# Altium schematic symbol library PartsDatabaseV16.1.SchLib: 101 symbols (part 2 of 2)
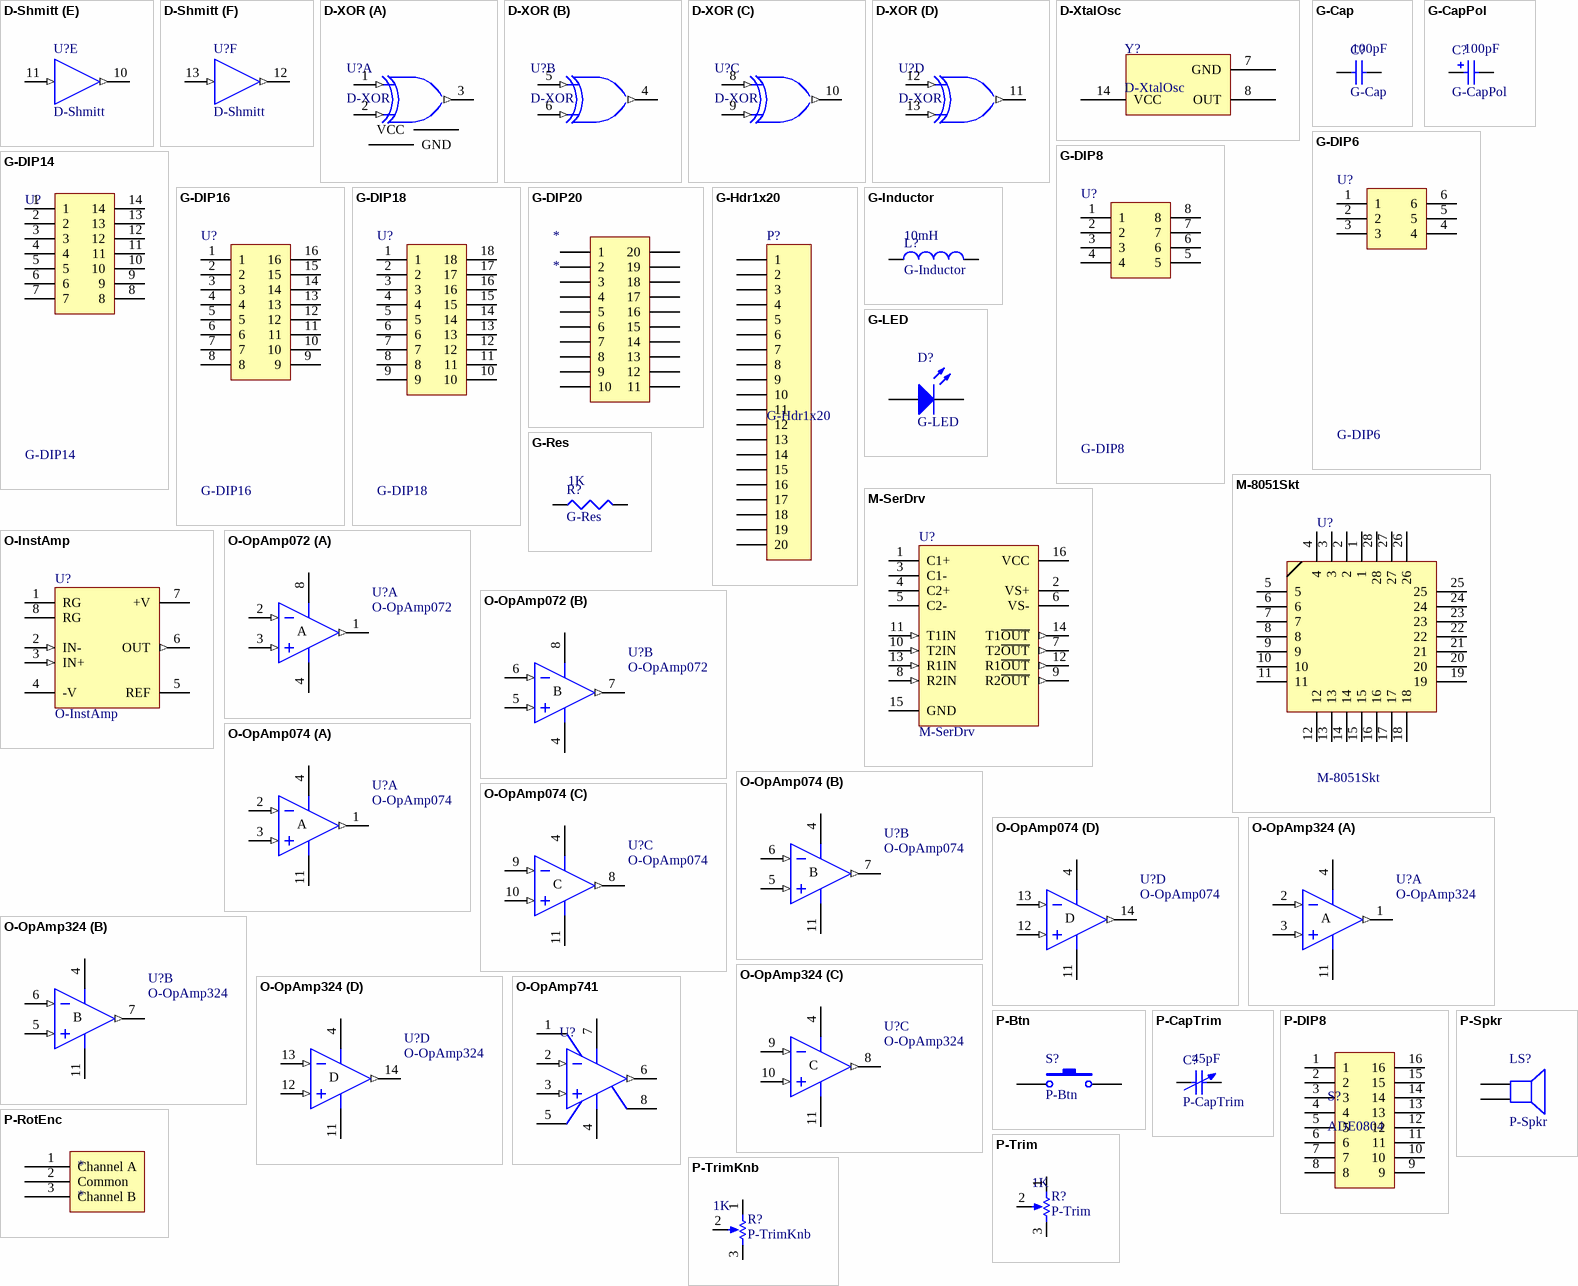
[diagram p4: symbols D-Shmitt to P-TrimKnb]

## O-OpAmp324
designator U?
Quad Op-Amp; Published: 24-Aug-2001; LatestRevisionDate: 06-Jun-2005; LatestRevisionNote: Stylized 3D Model Added.; DatasheetVersion: Jun-1999; PackageVersion: Jan-1997; PackageReference: DIP14; Publisher: Altium Limited; PackageDescription: DIP; 14 Leads; Row Spacing 7.62 mm; Pitch 2.54 mm; ComponentLink1Description: Manufacturer Link; ComponentLink1URL: http://www.st.com/; ComponentLink2Description: Datasheet; ComponentLink2URL: http://www.st.com/stonline/products/literature/ds/2156/lm324.pdf; ComponentLink3URL: https://www.fairchildsemi.com/datasheets/LM/LM2902.pdf; ComponentLink3Description: Datasheet (ELEC391)
footprint DIP14_LGE1.0 (DIP; 14 Leads; Row Spacing 7.62 mm; Pitch 2.54 mm)
footprint DIP14_SML0.8 (DIP; 14 Leads; Row Spacing 7.62 mm; Pitch 2.54 mm)
simulation model LM324
pins on every part: 4 V+ (power), 11 V- (power)
part A pins: 1 OUT (out), 2 IN- (in), 3 IN+ (in)
part B pins: 5 IN+ (in), 6 IN- (in), 7 OUT (out)
part C pins: 8 OUT (out), 9 IN- (in), 10 IN+ (in)
part D pins: 12 IN+ (in), 13 IN- (in), 14 OUT (out)
part A text: A
part B text: B
part C text: C
part D text: D

## O-OpAmp741
designator U?
741 Op-Amp; PartNumber: LM741CN; Manufacturer: National Semiconductor; CompType: Amplifiers; PackageTopMarking: NSUZXYTT*LM*741CN; PowerWise: N; Published: 4-Dec-2008; LatestRevisionDate: 13-Jan-2009; LatestRevisionNote: Sim Model Added.; DatasheetVersion: Aug-2000; PackageVersion: revG, May-2006; PackageReference: N08E; Publisher: Altium Limited; PackageDescription: MDIP, .365 x .250 x .130in, 8 Lead, .100in Pitch; RoHS: O; PinCount: 8; DigiKeyPartNumber: LM741CNNS-ND; Code_JEDEC: MS-001-BA; ComponentLink1Description: LM741 Datasheet; ComponentLink1URL: http://www.national.com/ds/LM/LM741.pdf; ComponentLink2Description: LM741 Web Page; ComponentLink2URL: http://www.national.com/pf/LM/LM741.html; ComponentLink3Description: N08E Package Page; ComponentLink3URL: http://www.national.com/packaging/folders/n08e.html; ComponentLink4URL: http://www.ti.com/lit/ds/symlink/lm741.pdf; ComponentLink4Description: Datasheet (ELEC391)
footprint DIP8_LGE1.0 (DIP, 8-Leads, Row Spacing 7.62mm, Pitch 2.54mm, Body 9.91x6.35mm)
footprint DIP8_SML0.8 (DIP, 8-Leads, Row Spacing 7.62mm, Pitch 2.54mm, Body 9.91x6.35mm)
simulation model LM741 (//////////////////////////////////////////////////////////)
pins: 1 OFS NULL, 2 IN- (in), 3 IN+ (in), 4 V- (power), 5 OFS NULL, 6 OUT (out), 7 V+ (power), 8 NC

## P-Btn
designator S?
Push Button; Published: 24-Mar-1999; LatestRevisionDate: 17-Jul-2002; LatestRevisionNote: Re-released for DXP Platform.; PackageReference: SPST-2; Publisher: Altium Limited; ComponentLink1Description: Datasheet (ELEC391); ComponentLink1URL: http://industrial.panasonic.com/cdbs/www-data/pdf/ATK0000/ATK0000CE11.pdf
footprint SPST-2_LGE1.0 (Circuit Breaker; 2 Leads)
footprint SPST-2 _SML0.8 (Circuit Breaker; 2 Leads)
pins: 1, 2

## P-CapTrim
designator C?  value 45pF
7-45 pF cap trimmer; Published: 24-Mar-1999; LatestRevisionDate: 29-May-2009; LatestRevisionNote: IPC-7351 Footprint Added.; PackageReference: C1210; Publisher: Altium Limited; PackageDescription: Chip Capacitor 1210 Case Size; Code_JEITA: 1210; Code_IPC: CAPC3225
signal-integrity model Cap Var
footprint CapTrimmer_2XLGE1.5 (Thru-Hole(1.3mm); 2 Leads; Distance 5mm)
pins: 1, 2

## P-DIP8
designator S?, comment ADE0804
8-Pos DIP switch; ComponentLink1Description: Datasheet (ELEC391); ComponentLink1URL: http://www.te.com/commerce/DocumentDelivery/DDEController?Action=srchrtrv&DocNm=1825057&DocType=Customer+Drawing&DocLang=English
footprint DIP16_LGE1.0 (DIP; 16 Leads; Row Spacing 7.62 mm; Pitch 2.54 mm)
pins: 1, 2, 3, 4, 5, 6, 7, 8, 9, 10, 11, 12, 13, 14, 15, 16

## P-RotEnc
designator *
PEC12R-4017F-N0024 - Encoder Rotary; ComponentLink1Description: Datasheet (ELEC391); ComponentLink1URL: http://www.bourns.com/docs/Product-Datasheets/PEC12R.pdf
footprint PEC12R-4217F-S0024 (PEC12R-4217F-S0024 - Encoder Rotary)
pins: 1 Channel A, 2 Common, 3 Channel B

## P-Spkr
designator LS?
1/4 W PC mount speaker; Published: 24-Mar-1999; LatestRevisionDate: 17-Jul-2002; LatestRevisionNote: Re-released for DXP Platform.; PackageReference: PIN2; Publisher: Altium Limited; ComponentLink1URL: http://www.cui.com/product/resource/clf0381mp-1.pdf; ComponentLink1Description: Datasheet (ELEC391)
footprint PIN2_LGE1.0 (Photosensitive Diode; 2 Leads)
footprint PIN2_SML0.8 (Photosensitive Diode; 2 Leads)
pins: 1, 2

## P-Trim
designator R?  value 1K
12 turn trimmer (top adj); Sim Note: Enter the Resistance value and the set point into parameter fields.; Set Position: 0.5; Published: 8-Jun-2000; LatestRevisionDate: 17-Jul-2002; LatestRevisionNote: Re-released for DXP Platform.; PackageReference: VR5; Publisher: Altium Limited; ComponentLink1URL: http://www.bourns.com/docs/Product-Datasheets/pv36.pdf; ComponentLink1Description: Datasheet (ELEC391)
simulation model POT (Potentiometer)
footprint 3holesVres_SML0.8 _PV36W (Variable Resistor, Thru-Hole; 3 Leads)
footprint 3holesVres_LGE1.0_PV36W (Variable Resistor, Thru-Hole; 3 Leads)
footprint 3holesVres_LGE1.0 (Variable Resistor, Thru-Hole; 3 Leads)
footprint 3holesVres_SML0.8 (Variable Resistor, Thru-Hole; 3 Leads)
pins: 1 TOP, 2 TAP, 3 BOT
1 alternate drawing of the same symbol

## P-TrimKnb
designator R?  value 1K
1K trimmer (knob); Sim Note: Enter the Resistance value and the set point into parameter fields.; Set Position: 0.5; Published: 8-Jun-2000; LatestRevisionDate: 17-Jul-2002; LatestRevisionNote: Re-released for DXP Platform.; PackageReference: VR5; Publisher: Altium Limited; DigiKey Part Number: CT2251-ND; ComponentLink1Description: Datasheet (ELEC391); ComponentLink1URL: http://www.ctscorp.com/wp-content/uploads/2015/11/296.pdf
simulation model POT (Potentiometer)
footprint TrimKnb_XLGE1.2 (Variable Resistor, Thru-Hole, 3 Leads, knob)
footprint TrimKnb_2XLGE1.5 (Variable Resistor, Thru-Hole, 3 Leads, knob)
pins: 1 TOP, 2 TAP, 3 BOT
1 alternate drawing of the same symbol

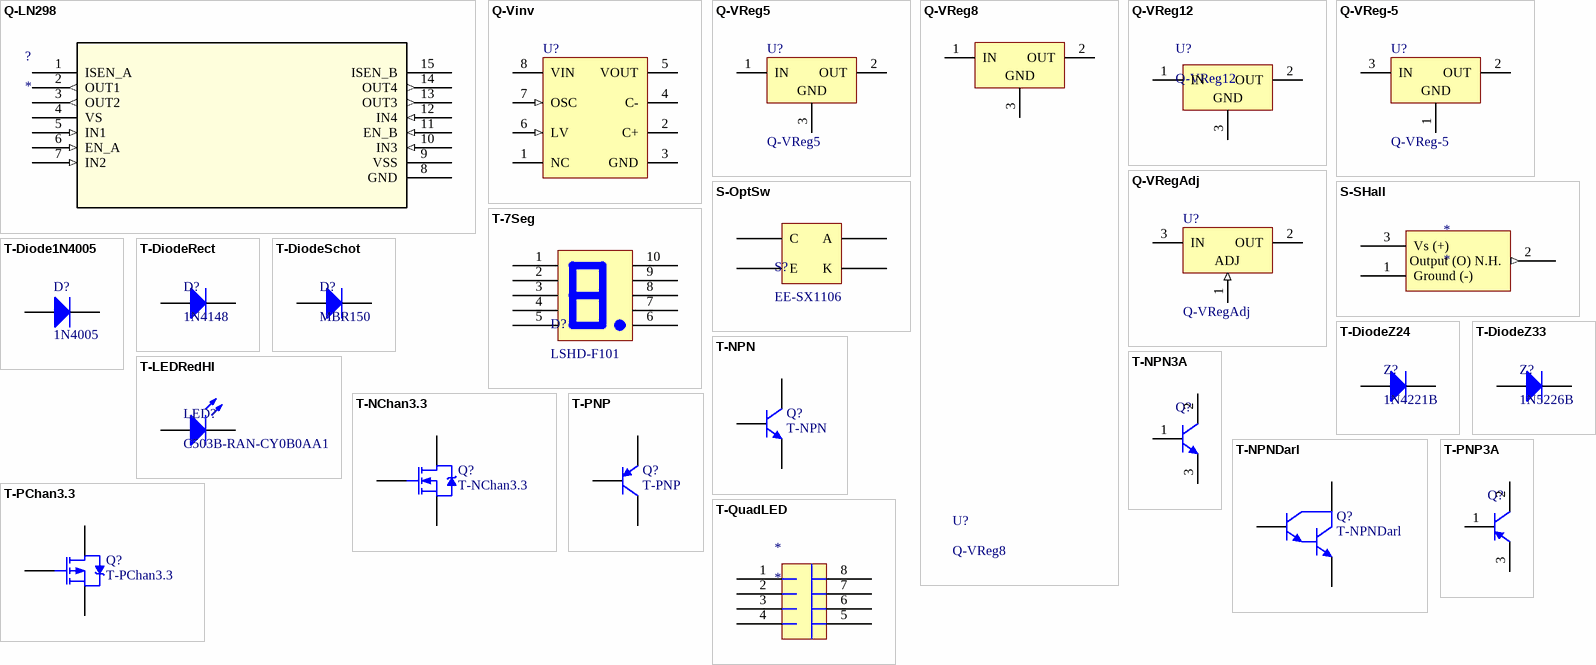
[diagram p3: symbols Q-LN298 to T-QuadLED]

## Q-LN298
designator ?
LN298 - IC Bridge Driver Par 15Multiwatt; Manufacturer_Part_Number: L298N; Vendor: ST Microelectronics; Input Type: Non-Inverting; Number of Outputs: 4; Current - Output / Channel: 2A; Current - Peak Output: 3A; Voltage - Supply: 4.5 V ~ 46 V; C: Copyright (C) 2015 Accelerated Designs. All rights reserved; Quantity_Available: 5651; DataSheet: http://www.st.com/internet/com/TECHNICAL_RESOURCES/TECHNICAL_LITERATURE/DATASHEET/CD00000240.pdf; Type: Type; On-State Resistance: -; Operating Temperature: -25Â°C ~ 130Â°C; Mounting Type: Through Hole; Package / Case: Multiwatt-15 (Vertical, Bent and Staggered Leads); Supplier Device Package: 15-Multiwatt; Packaging: Tube; Copyright: Copyright (C) 2015 Accelerated Designs. All rights reserved; RefDes: RefDes; Value: Value; ComponentLink1URL: http://www.st.com/content/ccc/resource/technical/document/datasheet/82/cc/3f/39/0a/29/4d/f0/CD00000240.pdf/files/CD00000240.pdf/jcr:content/translations/en.CD00000240.pdf; ComponentLink1Description: Datasheet (ELEC391)
footprint Multiwatt15_V
footprint Multiwatt15_V_ELEC391mod
pins: 1 ISEN_A, 2 OUT1 (out), 3 OUT2 (out), 4 VS (power), 5 IN1 (in), 6 EN_A (in), 7 IN2 (in), 8 GND (power), 9 VSS (power), 10 IN3 (in), 11 EN_B (in), 12 IN4 (in), 13 OUT3 (out), 14 OUT4 (out), 15 ISEN_B

## Q-Vinv
designator U?
voltage inverter; Published: 29-Jan-2009; DatasheetVersion: revA, Oct-2002; PackageVersion: revAW, Oct-2008; PackageReference: PDIP300-PA8; Publisher: Altium Limited; PackageDescription: 8-Lead Plastic Dual In-Line (PA) - 300 mil Body [PDIP]; Code_JEDEC: MS-001-BA; ComponentLink1Description: Manufacturer Link; ComponentLink1URL: http://www.microchip.com; ComponentLink2Description: Datasheet; ComponentLink2URL: http://ww1.microchip.com/downloads/en/DeviceDoc/21466a.pdf; ComponentLink3Description: Packaging Specification; ComponentLink3URL: http://ww1.microchip.com/downloads/en/PackagingSpec/00049AW.pdf; ComponentLink4URL: http://www.intersil.com/content/dam/Intersil/documents/icl7/icl7660.pdf; ComponentLink4Description: Datasheet (ELEC391)
footprint DIP8_LGE1.0 (DIP, 8-Leads, Row Spacing 7.62mm, Pitch 2.54mm, Body 9.91x6.35mm)
footprint DIP8_SML0.8 (DIP, 8-Leads, Row Spacing 7.62mm, Pitch 2.54mm, Body 9.91x6.35mm)
pins: 1 NC, 2 C+, 3 GND (power), 4 C-, 5 VOUT (power), 6 LV (in), 7 OSC (in), 8 VIN (power)

## Q-VReg5
designator U?
voltage reg (5V); Published: 15-Apr-2002; DatasheetVersion: Oct-1999; PackageVersion: 1996; PackageReference: 29-04; Publisher: Altium Limited; PackageDescription: TO, Flat Index; 3 In-Line, Axial Leads; Body Dia. 4.8mm; Leads 0.48 x 0.51 mm (max); ComponentLink1Description: Manufacturer Link; ComponentLink1URL: http://www.onsemi.com/site/products/taxonomy/0,4438,503,00.html; ComponentLink2Description: Datasheet; ComponentLink2URL: http://www.onsemi.com/pub/Collateral/MC78L00A-D.PDF; ComponentLink3URL: https://www.fairchildsemi.com/datasheets/LM/LM7805.pdf; ComponentLink3Description: Datasheet (ELEC391)
footprint TO220_XLGE1.2 (TO, Thru-Hole, Vertical, Heatsink Mounted; 3 In-Line Leads; Pitch 2.54 mm; Pin sequence 1, 3, 2)
pins: 1 IN (power), 2 OUT (power), 3 GND (power)

## Q-VReg8
designator U?
voltage reg (8V); ComponentLink1URL: https://www.fairchildsemi.com/datasheets/LM/LM7805.pdf; ComponentLink1Description: Datasheet (ELEC391)
footprint TO220_XLGE1.2 (TO, Thru-Hole, Vertical, Heatsink Mounted; 3 In-Line Leads; Pitch 2.54 mm; Pin sequence 1, 3, 2)
pins: 1 IN (power), 2 OUT (power), 3 GND (power)

## Q-VReg12
designator U?
voltage reg (12V); ComponentLink1URL: https://www.fairchildsemi.com/datasheets/LM/LM7805.pdf; ComponentLink1Description: Datasheet (ELEC391)
footprint TO220_XLGE1.2 (TO, Thru-Hole, Vertical, Heatsink Mounted; 3 In-Line Leads; Pitch 2.54 mm; Pin sequence 1, 3, 2)
pins: 1 IN (power), 2 OUT (power), 3 GND (power)

## Q-VReg-5
designator U?
voltage reg (-5V); Note: Tab is connected to pin 3 (IN).; Published: 24-Aug-2001; LatestRevisionDate: 17-Jul-2002; LatestRevisionNote: Re-released for DXP Platform.; DatasheetVersion: Nov-1999; PackageReference: TO220V; Publisher: Altium Limited; PackageDescription: TO, Thru-Hole, Vertical, Heatsink Mounted; 3 In-Line Leads; Pitch 2.54 mm; Pin sequence 1, 3, 2; ComponentLink1Description: Manufacturer Link; ComponentLink1URL: http://www.st.com/; ComponentLink2Description: Datasheet; ComponentLink2URL: http://www.st.com/stonline/products/literature/ds/2150/l7905ac.pdf; ComponentLink3URL: https://www.fairchildsemi.com/datasheets/LM/LM7905.pdf; ComponentLink3Description: Datasheet (ELEC391)
footprint TO220_XLGE1.2 (TO, Thru-Hole, Vertical, Heatsink Mounted; 3 In-Line Leads; Pitch 2.54 mm; Pin sequence 1, 3, 2)
pins: 1 GND (power), 2 OUT (power), 3 IN (power)

## Q-VRegAdj
designator U?
voltage reg (adjustable); Note: Heatsink surface connected to Pin 2; Published: 15-Apr-2002; DatasheetVersion: 1996; PackageVersion: 1997; PackageReference: 221A-06; Publisher: Altium Limited; PackageDescription: TO, Thru-Hole, Vertical, Heatsink Mounted; 3 In-Line Leads; Pitch 2.54 mm; Code_JEDEC: TO-262-AA; ComponentLink1Description: Manufacturer Link; ComponentLink1URL: http://www.onsemi.com/site/products/taxonomy/0,4438,503,00.html; ComponentLink2Description: Datasheet; ComponentLink2URL: http://www.onsemi.com/pub/Collateral/LM317-D.PDF; ComponentLink3URL: http://www.st.com/content/ccc/resource/technical/document/datasheet/group1/a0/db/e6/9b/6f/9c/45/7b/CD00000455/files/CD00000455.pdf/jcr:content/translations/en.CD00000455.pdf; ComponentLink3Description: Datasheet (ELEC391)
footprint 221A-06_XLGE1.2 (TO, Thru-Hole, Vertical, Heatsink Mounted; 3 In-Line Leads; Pitch 2.54 mm)
pins: 1 ADJ (in), 2 OUT (power), 3 IN (power)

## S-OptSw
designator S?, comment EE-SX1106
Optical Switch; ComponentLink1URL: http://www.omron.com/ecb/products/pdf/en-ee_sx1106.pdf; ComponentLink1Description: Datasheet (ELEC391)
footprint S-OptSw
pins: A "Anode", C "Collector", E "Emitter", K "Cathode"

## S-SHall
designator *
SS411P - Sensor Hall Effect Bipolar TO92; ComponentLink1URL: http://sensing.honeywell.com/index.php/ci_id/45288/la_id/1/document/1/re_id/0; ComponentLink1Description: Datasheet (ELEC391)
footprint TO-92 (TO, Flat Index; 3 In-Line, Axial Leads; Body Dia. 4.6mm; Leads 0.41 x 0.39 mm (max))
footprint TO-92A (TO, Flat Index; 3 In-Line, Axial Leads; Body Dia. 4.5mm; Leads 0.51 x 0.48 mm (max))
footprint TO-92 - mod for ELEC391 rules (TO, Flat Index; 3 In-Line, Axial Leads; Body Dia. 4.6mm; Leads 0.41 x 0.39 mm (max))
pins: 1 Ground (-), 2 Output (O) N.H. (out), 3 Vs (+)

## T-7Seg
designator D?, comment LSHD-F101
7-Segment display; DigiKey Part Number: 160-1525-5-ND; ComponentLink1URL: http://media.digikey.com/pdf/Data%20Sheets/Lite-On%20PDFs/LTS-4802BJS-H1.pdf; ComponentLink1Description: Datasheet (ELEC391)
footprint 7-segment
simulation model SEVEN_SEGMENTDA (Model Description)
pins: 1 Common Anode, 2 F "Cathode F", 3 G "Cathode G", 4 E "Cathode E", 5 D "Cathode D", 6 Common Anode, 7 DP "Cathode DP", 8 C "Cathode C", 9 B "Cathode B", 10 A "Cathode A"

## T-Diode1N4005
designator D?, comment 1N4005
Diode; Published: 8-Jun-2000; LatestRevisionDate: 17-Jul-2002; LatestRevisionNote: Re-released for DXP Platform.; DatasheetDocument: 1998; PackageDocument: Aug-1999; PackageReference: DO-41; Publisher: Altium Limited; Code_JEDEC: DO-204-AL; ComponentLink1Description: Manufacturer Link; ComponentLink1URL: http://www.fairchildsemi.com/; ComponentLink2Description: Pinout Specification; ComponentLink2URL: http://www.fairchildsemi.com/ds/1N%2F1N4001.pdf; ComponentLink3URL: http://www.mccsemi.com/up_pdf/1N4001-1N4007(DO-41).pdf; ComponentLink3Description: Datasheet (ELEC391)
signal-integrity model 1N4005
footprint DO-41_XLGE1.2 (Diode, Axial; Body 5.2 x 2.7 mm (LxDia. max), Lead Dia. 0.86 mm (max))
simulation model 1N4005 (1N4005 MCE 8-16-95)
footprint DO-41_XLGE1.2_OLD (Diode, Axial; Body 5.2 x 2.7 mm (LxDia. max), Lead Dia. 0.86 mm (max))
pins: 1 A, 2 K

## T-DiodeRect
designator D?, comment 1N4148
High-speed Diode; ComponentLink1URL: http://www.mccsemi.com/up_pdf/1N4148(DO-35).pdf; ComponentLink1Description: Datasheet (ELEC391)
simulation model 1N4148
footprint DO-41_XLGE1.2 (Diode, Axial; Body 5.2 x 2.7 mm (LxDia. max), Lead Dia. 0.86 mm (max))
footprint DO-41_XLGE1.2_OLD (Diode, Axial; Body 5.2 x 2.7 mm (LxDia. max), Lead Dia. 0.86 mm (max))
pins: 1 A, 2 K

## T-DiodeSchot
designator D?, comment MBR150
Schottky Diode; ComponentLink1URL: http://media.digikey.com/pdf/Data%20Sheets/Vishay%20Semiconductors/VS-MBR150,160(M3).pdf; ComponentLink1Description: Datasheet (ELEC391)
footprint DO-41_XLGE1.2 (Diode, Axial; Body 5.2 x 2.7 mm (LxDia. max), Lead Dia. 0.86 mm (max))
simulation model DMBR150RL (Model Generated by MODPEX)
footprint DO-41_XLGE1.2_OLD (Diode, Axial; Body 5.2 x 2.7 mm (LxDia. max), Lead Dia. 0.86 mm (max))
pins: 1 A, 2 K

## T-DiodeZ24
designator Z?, comment 1N4221B
2.4 V  Zener diode; ComponentLink1URL: http://www.mccsemi.com/up_pdf/1N5221-1N5267(DO-35).pdf; ComponentLink1Description: Datasheet (ELEC391)
footprint DO-41_XLGE1.2 (Diode, Axial; Body 5.2 x 2.7 mm (LxDia. max), Lead Dia. 0.86 mm (max))
simulation model F1N5221B (Zener Diode Electrical Parameters)
footprint DO-41_XLGE1.2_OLD (Diode, Axial; Body 5.2 x 2.7 mm (LxDia. max), Lead Dia. 0.86 mm (max))
pins: 1 A, 2 K

## T-DiodeZ33
designator Z?, comment 1N5226B
3.3 V Zener diode; ComponentLink1URL: http://www.mccsemi.com/up_pdf/1N5221-1N5267(DO-35).pdf; ComponentLink1Description: Datasheet (ELEC391)
footprint DO-41_XLGE1.2 (Diode, Axial; Body 5.2 x 2.7 mm (LxDia. max), Lead Dia. 0.86 mm (max))
simulation model F1N5226B (Zener Diode Electrical Parameters)
footprint DO-41_XLGE1.2_OLD (Diode, Axial; Body 5.2 x 2.7 mm (LxDia. max), Lead Dia. 0.86 mm (max))
pins: 1 A, 2 K

## T-LEDRedHI
designator LED?, comment C503B-RAN-CY0B0AA1
LED (high intensity - red); ComponentLink1URL: http://www.cree.com/~/media/Files/Cree/LED%20Components%20and%20Modules/HB/Data%20Sheets/C503B%20RAS%20RAN%20AAS%20AAN%20RBS%20RBN%20ABS%20ABN%20RCS%20RCN%20ACS%20ACN%201079.pdf; ComponentLink1Description: Datasheet (ELEC391)
footprint LED_LGE1.0 (2.8 mm (typ))
simulation model LED_RED (Model Description)
pins: 1 A, 2 K

## T-NChan3.3
designator Q?
N-Channel Power MOSFET; Note: Pin 2 is electrically connected to pin 4.; Published: 23-Jan-2015; LatestRevisionDate: 23-Jan-2015; PackageReference: TO-220AB; PackageDescription: TO, Thru-Hole, Vertical, Heatsink Mounted; 3 In-Line Leads; Pitch 2.54 mm; ComponentLink1URL: http://www.vishay.com/docs/91023/91023.pdf; ComponentLink1Description: Datasheet (ELEC391)
footprint TO-220AB (TO, Thru-Hole, Vertical, Heatsink Mounted; 3 In-Line Leads; Pitch 2.54 mm)
simulation model IRF610 (Spice Subcircuit)
pins: 1 G, 2 D, 3 S

## T-NPN
designator Q?
NPN BJT (gain = 100 @ 10mA, 1V); Published: 8-Jun-2000; LatestRevisionDate: 17-Jan-2003; LatestRevisionNote: PCB Footprint 'BCY-W3/D4.7' replaced; DatasheetDocument: 1997; PackageDocument: Sep-1998; PackageReference: TO-92A; Publisher: Altium Limited; ComponentLink1Description: Manufacturer Link; ComponentLink1URL: http://www.fairchildsemi.com/; ComponentLink2Description: Datasheet; ComponentLink2URL: http://www.fairchildsemi.com/ds/2N%2F2N3904.pdf; ComponentLink3URL: https://www.fairchildsemi.com/datasheets/MM/MMBT3904.pdf; ComponentLink3Description: Datasheet (ELEC391)
signal-integrity model 2N3904
footprint 29-04_LGE1.0 (TO, Flat Index; 3 In-Line, Axial Leads; Body Dia. 4.8mm; Leads 0.48 x 0.5 mm (max))
footprint 29-04_SML0.8 (TO, Flat Index; 3 In-Line, Axial Leads; Body Dia. 4.8mm; Leads 0.48 x 0.5 mm (max))
simulation model 2N3904
pins: 1 E, 2 B, 3 C

## T-NPN3A
designator Q?
Complementary Silicon Plastic Power Transistor, 3-Pin TO-220, Pb-Free, Tube; Manufacturer: On Semiconductor; PartNumber: TIP31CG; fT Min (MHz): 3; Polarity: NPN; DatasheetVersion: Rev. 14; PackageVersion: Rev. AG, 09/2011; PackageReference: TO-220-3-221A-09; PackageDescription: 3-Pin Flange Mount, Vertical Straight Lead, Body 9.97 x 4.445 mm, Pitch 2.54 mm; Supplier 1: Digi-Key; Supplier Part Number 1: TIP31CGOS-ND; Supplier 2: Farnell; Supplier Part Number 2: 1166985; Supplier 3: Newark; Supplier Part Number 3: 45J2283; Supplier 4: Mouser; Supplier Part Number 4: 863-TIP31CG; IC Continuous (A): 3; Packing: Tube; RoHS: TRUE; Mounting Technology: Through Hole; ComponentLink1Description: Manufacturer URL; ComponentLink1URL: http://www.onsemi.com/; ComponentLink2Description: Datasheet; ComponentLink2URL: http://www.onsemi.com/pub_link/Collateral/TIP31A-D.PDF; ComponentLink3Description: Package Specification; ComponentLink3URL: http://www.onsemi.com/pub_link/Collateral/221A-09.PDF; ComponentLink4URL: https://www.fairchildsemi.com/datasheets/TI/TIP31A.pdf; ComponentLink4Description: Datasheet (ELEC391)
footprint TO-220AB (TO, Thru-Hole, Vertical, Heatsink Mounted; 3 In-Line Leads; Pitch 2.54 mm)
simulation model TIP31C (Spice model)
pins: 1 B, 2 C, 3 E

## T-NPNDarl
designator Q?
NPN Darl Pair BJT (gain=20K, 10mA, 5V); Published: 29-Sep-2000; LatestRevisionDate: 17-Jul-2002; LatestRevisionNote: Re-released for DXP Platform.; DatasheetVersion: 1991; PackageVersion: 1996; PackageReference: 29-04; Publisher: Altium Limited; PackageDescription: TO, Flat Index; 3 In-Line, Axial Leads; Body Dia. 4.8mm; Leads 0.48 x 0.5 mm (max); ComponentLink1Description: Manufacturer Link; ComponentLink1URL: http://www.onsemi.com/site/products/landing?taxonomyID=194; ComponentLink2Description: Datasheet (ELEC391); ComponentLink2URL: http://www.onsemi.com/pub/Collateral/2N6426-D.PDF
footprint 29-04_LGE1.0 (TO, Flat Index; 3 In-Line, Axial Leads; Body Dia. 4.8mm; Leads 0.48 x 0.5 mm (max))
footprint 29-04_SML0.8 (TO, Flat Index; 3 In-Line, Axial Leads; Body Dia. 4.8mm; Leads 0.48 x 0.5 mm (max))
simulation model 2N6426 (2N6426 MCE 6/19/97)
pins: 1 E, 2 B, 3 C

## T-PChan3.3
designator Q?
P-Channel Power MOSFET; Note: Pin 4 not drawn and electrically connected to Pin 2.; Published: 4-Nov-2002; PackageReference: TO-220AB; PackageDescription: TO, Thru-Hole, Vertical, Heatsink Mounted; 3 In-Line Leads; Pitch 2.54 mm; ComponentLink1URL: https://www.fairchildsemi.com/datasheets/FQ/FQP7P06.pdf; ComponentLink1Description: Datasheet (ELEC391)
footprint TO-220AB (TO, Thru-Hole, Vertical, Heatsink Mounted; 3 In-Line Leads; Pitch 2.54 mm)
simulation model FQP7P06 (Spice Subcircuit)
pins: 1 G, 2 D, 3 S

## T-PNP
designator Q?
PNP BJT (gain = 100 @ 10mA, 1V); Published: 8-Jun-2000; LatestRevisionDate: 17-Jan-2003; LatestRevisionNote: PCB Footprint 'BCY-W3/D4.7' replaced; DatasheetDocument: 1997; PackageDocument: Sep-1998; PackageReference: TO-92A; Publisher: Altium Limited; ComponentLink1Description: Manufacturer Link; ComponentLink1URL: http://www.fairchildsemi.com/; ComponentLink2Description: Datasheet; ComponentLink2URL: http://www.fairchildsemi.com/ds/2N%2F2N3906.pdf; ComponentLink3URL: https://www.fairchildsemi.com/datasheets/2N/2N3906.pdf; ComponentLink3Description: Datasheet (ELEC391)
signal-integrity model 2N3906
footprint 29-04_LGE1.0 (TO, Flat Index; 3 In-Line, Axial Leads; Body Dia. 4.8mm; Leads 0.48 x 0.5 mm (max))
footprint 29-04_SML0.8 (TO, Flat Index; 3 In-Line, Axial Leads; Body Dia. 4.8mm; Leads 0.48 x 0.5 mm (max))
simulation model 2N3906
pins: 1 E, 2 B, 3 C

## T-PNP3A
designator Q?
Complementary Silicon Plastic Power Transistor, 3-Pin TO-220, Pb-Free, Tube; Manufacturer: On Semiconductor; PartNumber: TIP32CG; fT Min (MHz): 3; Polarity: PNP; DatasheetVersion: Rev. 14; PackageVersion: Rev. AG, 09/2011; PackageReference: TO-220-3-221A-09; PackageDescription: 3-Pin Flange Mount, Vertical Straight Lead, Body 9.97 x 4.445 mm, Pitch 2.54 mm; Supplier 1: Digi-Key; Supplier Part Number 1: TIP32CGOS-ND; Supplier 2: Farnell; Supplier Part Number 2: 1166986; Supplier 3: Newark; Supplier Part Number 3: 45J2285; Supplier 4: Newark; Supplier Part Number 4: 26M4154; Supplier 5: Mouser; Supplier Part Number 5: 863-TIP32CG; IC Continuous (A): 3; Packing: Tube; RoHS: TRUE; Mounting Technology: Through Hole; ComponentLink1Description: Manufacturer URL; ComponentLink1URL: http://www.onsemi.com/; ComponentLink2Description: Datasheet; ComponentLink2URL: http://www.onsemi.com/pub_link/Collateral/TIP31A-D.PDF; ComponentLink3Description: Package Specification; ComponentLink3URL: http://www.onsemi.com/pub_link/Collateral/221A-09.PDF; ComponentLink4URL: https://www.fairchildsemi.com/datasheets/TI/TIP32C.pdf; ComponentLink4Description: Datasheet (ELEC391)
footprint TO-220AB (TO, Thru-Hole, Vertical, Heatsink Mounted; 3 In-Line Leads; Pitch 2.54 mm)
simulation model TIP32C (Spice model)
pins: 1 B, 2 C, 3 E

## T-QuadLED
designator *
footprint Quad LED Indicator
pins: 1, 2, 3, 4, 5, 6, 7, 8